# EAGLE library part 0781271220 (library 0781271220)
Conn FFC/FPC Connector SKT 12 POS 0.5mm Solder ST SMD Easy-On T/R Source: Datasheet <https://www.molex.com/pdm_docs/sd/781271220_sd.pdf>
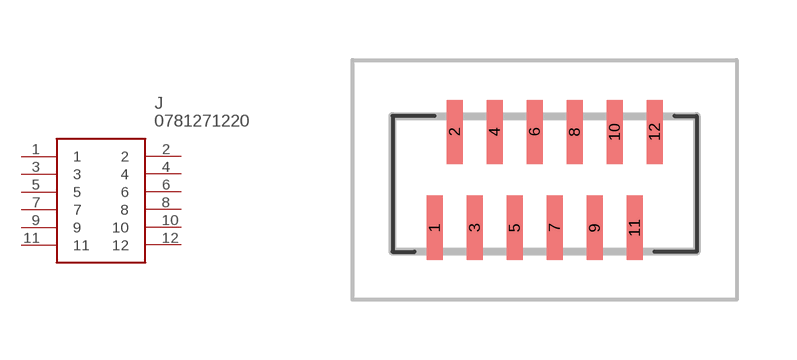
[diagram p0: symbol with the pads of 0781271220; footprint 0781271220]

Designator prefix J

## 0781271220 (Description: Conn FFC/FPC Connector SKT 12 POS 0.5mm Solder ST SMD Easy-On T/R; Height: 4.2mm; Manufacturer_Name: Molex; Manufacturer_Part_Number: 0781271220; Mouser_Part_Number: 538-78127-1220; Mouser_Price-Stock: https://www.mouser.co.uk/ProductDetail/Molex/0781271220?qs=BJlw7L4Cy79IAfNy30YYvQ%3D%3D)  [0781271220]
1  1
2  2
3  3
4  4
5  5
6  6
7  7
8  8
9  9
10  10
11  11
12  12

## Footprint 0781271220 (pad centres in mm)
0781271220-2
smd 0.4 x 1.6: 1 -3,-2.8; 2 -2.5,-0.4; 3 -2,-2.8; 4 -1.5,-0.4; 5 -1,-2.8; 6 -0.5,-0.4; 7 0,-2.8; 8 0.5,-0.4; 9 1,-2.8; 10 1.5,-0.4; 11 2,-2.8; 12 2.5,-0.4